# Altium footprint library JMPKG.PcbLib: 337 footprints (part 5 of 22)
Each footprint in its own frame and in the unit in brackets; x right, y up, seen from the top. Pads: shape width x height; smd on the part's side, far side on the other; paste and mask are expansions set on the pad; w line width, h text height; cw(c..) or ccw(c..) is an arc to the next point about the centre after c.
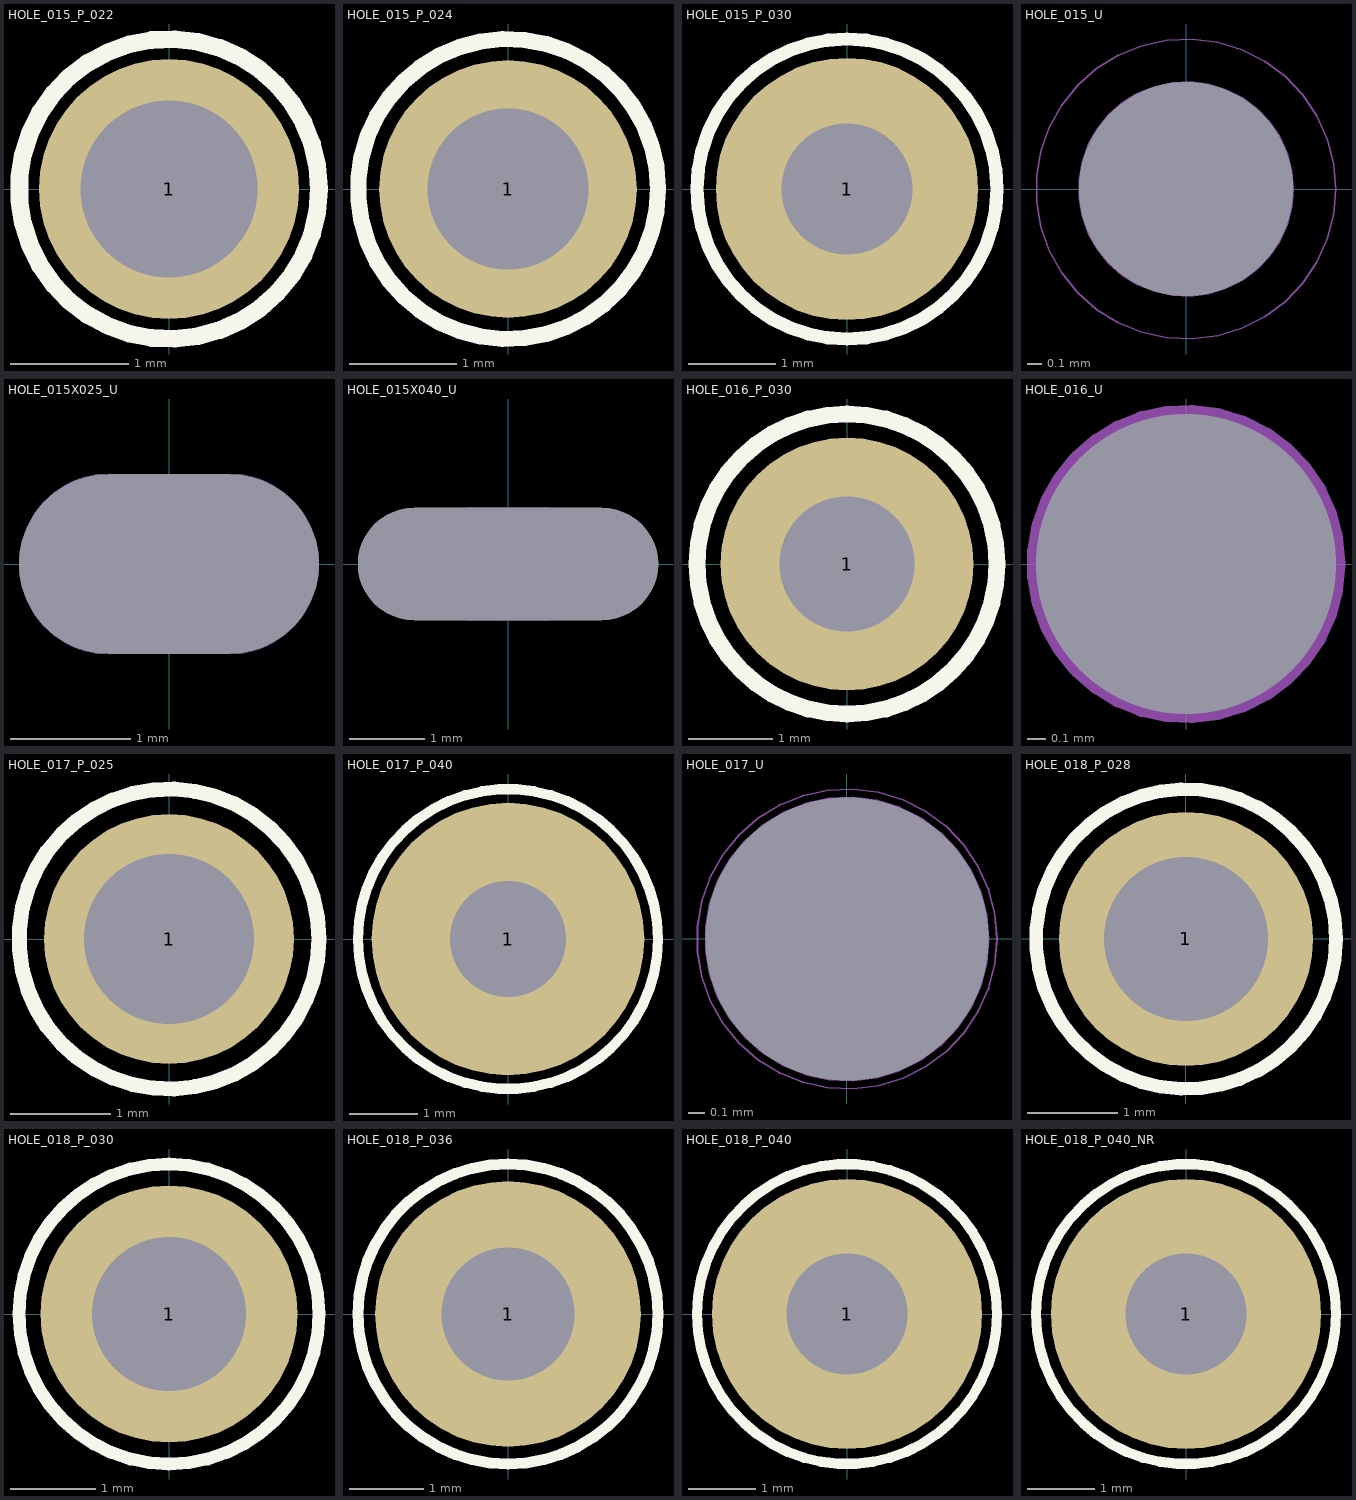
[diagram p4: the footprints below, top view; thin cyan lines are the x and y axes]

## HOLE_015_P_022 [mm]
pads (1):
  round 2.2 hole 1.5 mask+0.05: 1(0,0)
Top Overlay:
  circle w0.15: c0,0 r1.27
Mechanical 15:
  circle w0.01: c0,0 r0.75
Mechanical 16:
  circle w0.01: c0,0 r0.75
Multi-Layer:
  text "Value" at -1.007,-0.876 h0.6
Mechanical 20:
  circle w0.01: c0,0 r1.27

## HOLE_015_P_024 [mm]
pads (1):
  round 2.4 hole 1.5 mask+0.05: 1(0,0)
Top Overlay:
  circle w0.15: c0,0 r1.397
Mechanical 15:
  circle w0.01: c0,0 r0.75
Mechanical 16:
  circle w0.01: c0,0 r0.75
Multi-Layer:
  text "Value" at -1.007,-0.876 h0.6
Mechanical 20:
  circle w0.01: c0,0 r1.397

## HOLE_015_P_030 [mm]
pads (1):
  round 3 hole 1.5 mask+0.05: 1(0,0)
Top Overlay:
  circle w0.15: c0,0 r1.714
Drill Drawing:
  circle w0.01: c0,0 r0.75
Multi-Layer:
  text "Value" at -0.88,-1.003 h0.6
Mechanical 20:
  circle w0.01: c0,0 r1.714

## HOLE_015_U [mm]
pads (1):
  round 0 hole 1.5 unplated: 1(0,0)
Mechanical 15:
  circle w0.01: c0,0 r0.75
Mechanical 16:
  circle w0.01: c0,0 r0.75
Multi-Layer:
  text "Value" at -0.779,-0.555 h0.5
Mechanical 20:
  circle w0.01: c0,0 r1.05

## HOLE_015X025_U [mm]
pads (1):
  rrect100% 0x0 hole 1.5 slot 2.5 at 0 deg unplated: 1(0,0)
Mechanical 15:
  lines w0.01: -0.5,-0.75 0.502,-0.75 ccw(c0.502,0) 0.502,0.75 -0.5,0.75 ccw(c-0.5,0) -0.5,-0.75
Mechanical 16:
  lines w0.01: -0.502,-0.75 0.502,-0.75 ccw(c0.502,0) 0.502,0.75 -0.502,0.75 ccw(c-0.502,0) -0.502,-0.75

## HOLE_015X040_U [mm]
pads (1):
  rrect100% 0x0 hole 1.5 slot 4 at 0 deg unplated: 1(0,0)
Mechanical 15:
  lines w0.01: -0.5,-0.75 0.502,-0.75 ccw(c0.502,0) 0.502,0.75 -0.5,0.75 ccw(c-0.5,0) -0.5,-0.75
Mechanical 16:
  lines w0.01: -0.502,-0.75 0.502,-0.75 ccw(c0.502,0) 0.502,0.75 -0.502,0.75 ccw(c-0.502,0) -0.502,-0.75

## HOLE_016_P_030 [mm]
pads (1):
  round 3 hole 1.6 mask+0.1: 1(0,0)
Top Overlay:
  circle w0.2: c0,0 r1.778
Mechanical 15:
  circle w0.1: c0,0 r0.8
Mechanical 16:
  circle w0.1: c0,0 r0.8
Multi-Layer:
  text "Value" at -1.235,-1.314 h0.75
Mechanical 20:
  circle w0.1: c0,0 r1.778

## HOLE_016_U [mm]
pads (1):
  round 0 hole 1.6 unplated: 1(0,0)
Mechanical 15:
  circle w0.1: c0,0 r0.8
Mechanical 16:
  circle w0.1: c0,0 r0.8

## HOLE_017_P_025 [mm]
pads (1):
  round 2.5 hole 1.7 mask+0.05: 1(0,0)
Top Overlay:
  circle w0.15: c0,0 r1.5
Mechanical 15:
  circle w0.01: c0,0 r0.85
Mechanical 16:
  circle w0.01: c0,0 r0.85
Multi-Layer:
  text "Value" at -0.988,-1.405 h0.6
  text "Value" at -0.988,-1.375 h0.6
Mechanical 20:
  circle w0.01: c0,0 r1.5

## HOLE_017_P_040 [mm]
pads (1):
  round 4 hole 1.7 mask+0.05: 1(0,0)
Top Overlay:
  circle w0.15: c0,0 r2.2
Mechanical 15:
  circle w0.01: c0,0 r0.85
Mechanical 16:
  circle w0.01: c0,0 r0.85
Multi-Layer:
  text "Value" at -0.988,-1.405 h0.6
Mechanical 20:
  circle w0.01: c0,0 r2.2

## HOLE_017_U [mm]
pads (1):
  round 0 hole 1.7 unplated: 1(0,0)
Mechanical 15:
  circle w0.01: c0,0 r0.85
Mechanical 16:
  circle w0.01: c0,0 r0.85
Mechanical 20:
  circle w0.01: c0,0 r0.9

## HOLE_018_P_028 [mm]
pads (1):
  round 2.8 hole 1.8 mask+0.05: 1(0,0)
Top Overlay:
  circle w0.15: c0,0 r1.651
Mechanical 15:
  circle w0.01: c0,0 r0.9
Mechanical 16:
  circle w0.01: c0,0 r0.9
Multi-Layer:
  text "Value" at -0.861,-1.169 h0.55
Mechanical 20:
  circle w0.01: c0,0 r1.651

## HOLE_018_P_030 [mm]
pads (1):
  round 3 hole 1.8 mask+0.05: 1(0,0)
Top Overlay:
  circle w0.15: c0,0 r1.751
Mechanical 15:
  circle w0.01: c0,0 r0.9
Mechanical 16:
  circle w0.01: c0,0 r0.9
Multi-Layer:
  text "Value" at -0.861,-1.169 h0.55
Mechanical 20:
  circle w0.01: c0,0 r1.751

## HOLE_018_P_036 [mm]
pads (1):
  round 3.6 hole 1.8 mask+0.05: 1(0,0)
Top Overlay:
  circle w0.15: c0,0 r2.032
Mechanical 15:
  circle w0.01: c0,0 r0.9
Mechanical 16:
  circle w0.01: c0,0 r0.9
Multi-Layer:
  text "Value" at -0.943,-1.194 h0.6
Mechanical 20:
  circle w0.01: c0,0 r2.032

## HOLE_018_P_040 [mm]
pads (1):
  round 4 hole 1.8 mask+0.05: 1(0,0)
Top Overlay:
  circle w0.15: c0,0 r2.222
Mechanical 15:
  circle w0.01: c0,0 r0.9
Mechanical 16:
  circle w0.01: c0,0 r0.9
Multi-Layer:
  text "Value" at -0.943,-1.194 h0.6
  text "Value" at -0.988,-1.264 h0.6
Mechanical 20:
  circle w0.01: c0,0 r2.222

## HOLE_018_P_040_NR [mm]
pads (1):
  round 4 hole 1.8 mask+0.05: 1(0,0)
Top Overlay:
  circle w0.15: c0,0 r2.222
Mechanical 15:
  circle w0.01: c0,0 r0.9
Mechanical 16:
  circle w0.01: c0,0 r0.9
Multi-Layer:
  text "Value" at -0.943,-1.194 h0.6
  text "Value" at -0.988,-1.264 h0.6
Mechanical 20:
  circle w0.01: c0,0 r2.222